# EAGLE library part 6HU6 (library bodger)
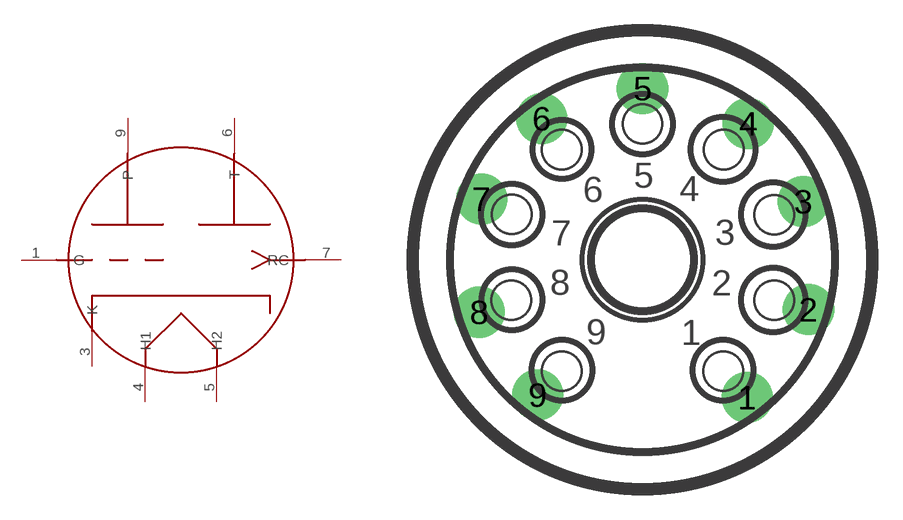
[diagram p12: symbol with the pads of NOVAL; footprint NOVAL]

Designator prefix -

## 6HU6  [NOVAL]
1  G
3  K
4  H1
5  H2
6  T
7  RC
9  P

## Footprint NOVAL (pad centres in mm)
drill 1.422 pad 2.54: 1 5.207,-6.858; 2 8.254,-2.484; 3 8.004,2.893; 4 5.258,6.77; 5 0,8.524; 6 -5.004,7.024; 7 -8.004,3.02; 8 -8.127,-2.611; 9 -5.207,-6.731